# EAGLE library part ARDUINO_NANO_EVERY (library byu_pressure_control)
Arduino Nano Every
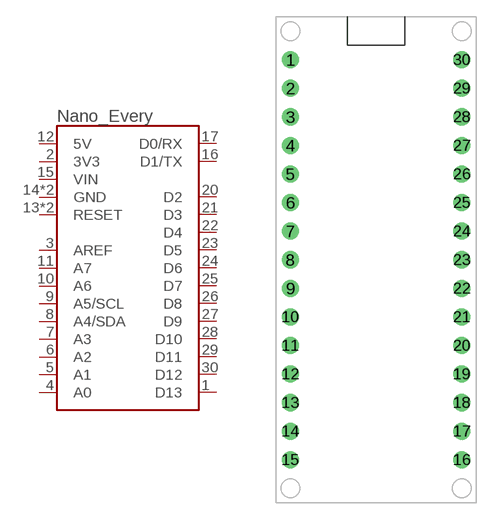
[diagram p0: symbol with the pads of NANO_FOOTPRINT; footprint NANO_FOOTPRINT]

Designator prefix J

## ARDUINO_NANO_EVERY (WEBSITE: https://store.arduino.cc/usa/nano-every)  [NANO_FOOTPRINT]
1  D13
2  3V3  out
3  AREF
4  A0
5  A1
6  A2
7  A3
8  A4/SDA
9  A5/SCL
10  A6
11  A7
12  5V  out
13  RESET
14  GND
15  VIN  in
16  D1/TX
17  D0/RX
18  RESET
19  GND
20  D2
21  D3
22  D4
23  D5
24  D6
25  D7
26  D8
27  D9
28  D10
29  D11
30  D12

## Footprint NANO_FOOTPRINT (pad centres in mm)
Arduino Nano Every Footprint
drill 1.016: 1 -7.62,17.78; 2 -7.62,15.24; 3 -7.62,12.7; 4 -7.62,10.16; 5 -7.62,7.62; 6 -7.62,5.08; 7 -7.62,2.54; 8 -7.62,0; 9 -7.62,-2.54; 10 -7.62,-5.08; 11 -7.62,-7.62; 12 -7.62,-10.16; 13 -7.62,-12.7; 14 -7.62,-15.24; 15 -7.62,-17.78; 16 7.62,-17.78; 17 7.62,-15.24; 18 7.62,-12.7; 19 7.62,-10.16; 20 7.62,-7.62; 21 7.62,-5.08; 22 7.62,-2.54; 23 7.62,0; 24 7.62,2.54; 25 7.62,5.08; 26 7.62,7.62; 27 7.62,10.16; 28 7.62,12.7; 29 7.62,15.24; 30 7.62,17.78